# Altium footprint library PCB - CONNECTOR - TE - TE 282837-0.PcbLib: 1 footprints
Each footprint in its own frame and in the unit in brackets; x right, y up, seen from the top. Pads: shape width x height; smd on the part's side, far side on the other; paste and mask are expansions set on the pad; w line width, h text height; cw(c..) or ccw(c..) is an arc to the next point about the centre after c.
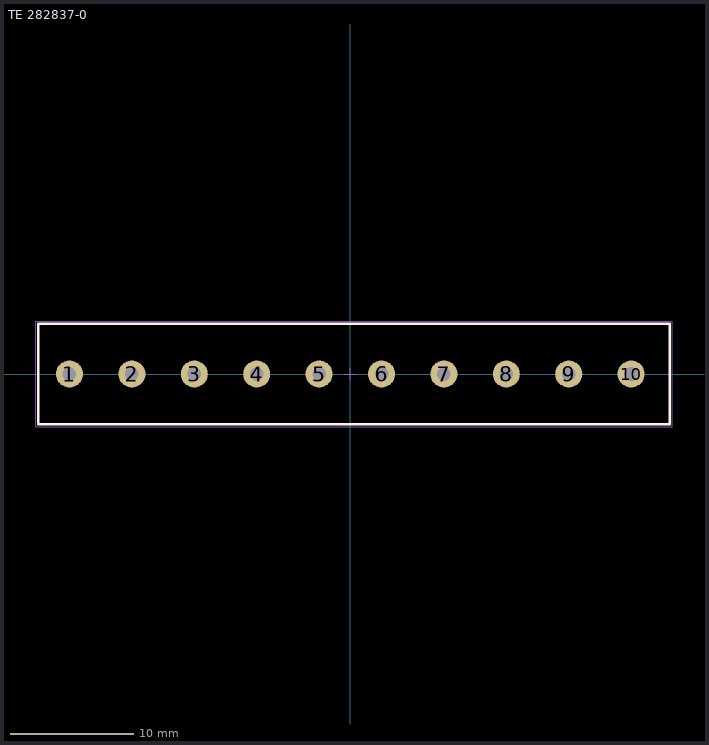
[diagram p0: the footprint, top view; thin cyan lines are the x and y axes]

## TE 282837-0 [mm] "Wire to Board Terminal Block Horizontal with Board, 10 Postions, Body 51.4x8.2mm, Pitch 5.08mm"
height 10.3
pads (10):
  round 2.2 hole 1.1: 1(-22.86,0) 2(-17.78,0) 3(-12.7,0) 4(-7.62,0) 5(-2.54,0) 6(2.54,0) 7(7.62,0) 8(12.7,0) 9(17.78,0) 10(22.86,0)
Top Overlay:
  lines w0.2: -25.4,-4.1 -25.4,4.1 26,4.1 26,-4.1 -25.4,-4.1
Mechanical 13:
  lines w0.1: -25.4,-4.1 26,-4.1 26,4.1 -25.4,4.1 -25.4,-4.1
Mechanical 15 (Mech15):
  lines w0.05: -25.6,-4.3 -25.6,4.3 26.2,4.3 26.2,-4.3 -25.6,-4.3
  lines w0.1: -0.508,0 0,0 ; 0,-0.508 0,0 ; 0,0.508 0,0 ; 0.508,0 0,0
3D body "TE - 282837-0 v3.STEP": height 10.3, standoff -3.8, extent -25.4,-4.1 26,4.1